# Altium schematic symbol library FQP30N06L.SchLib: 1 symbol
Pins are listed as number, name and electrical type; pins without a type are passive.

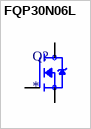
[diagram p0: symbol FQP30N06L]

## FQP30N06L
designator Q?
<b>N-Channel QFETÂ® MOSFET</b> <p>Source: <a href https://www.fairchildsemi.com/datasheets/FQ/FQP30N06L.pdf>Data Sheet </href>; MF: {'manufacturer': u'ON Semiconductor'}; Price: None; MP: FQP30N06L; Value: *; Availability: Unavailable; Package: None
footprint TO220V
pins: 1 G, 2 D, 3 S